# Altium schematic symbol library LED.SchLib: 6 symbols
Pins are listed as number, name and electrical type; pins without a type are passive.

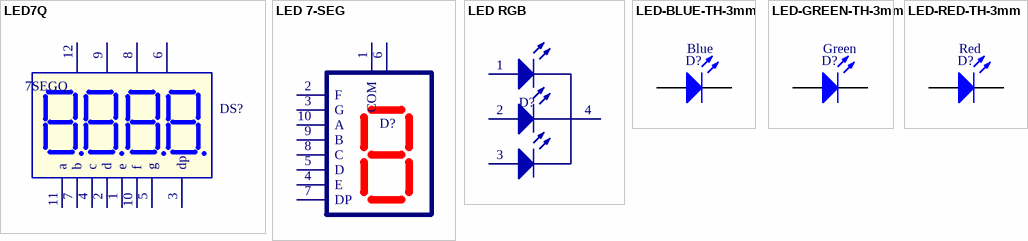
[diagram p0: symbols LED7Q to LED-RED-TH-3mm]

## LED7Q
designator DS?, comment 7SEGQ
Four 7 Seg Dipslay; Value: LED 7Q SEG
footprint 7SEGQ (DIP 12 Leads; Body 48 x 20 mm; Pitch 0.5 mm)
pins: 1 e, 2 d, 3 dp, 4 c, 5 g, 6 V4, 7 b, 8 V3, 9 V2, 10 f, 11 a, 12 V1

## LED 7-SEG
designator D?  (value not drawn)
Product ID: CEM3161BE; Name: 0.36" Anode single 7-seg; Supplier: tme.vn
footprint LED 7-SEG 0.36" (0.36" Single 7-seg)
pins: 1 COM, 2 F, 3 G, 4 E, 5 D, 6 COM, 7 DP, 8 C, 9 B, 10 A

## LED RGB
designator D?  (value not drawn)
footprint LED RGB
pins: 1 Anod, 2 Anod, 3 Anod, 4 Anod

## LED-BLUE-TH-3mm
designator D?  value Blue
LED BLUE CLEAR T-1 T/H; Manufacturer: Kingbright; Manufacturer Part Number: WP710A10QBC/D; Local Supplier: thegioiic; Local Supplier Link: https://thegioiic.com/products/led-xanh-duong-3mm-chan-dai; Supplier 1: Digikey; Supplier 1 Link: https://www.digikey.com/product-detail/en/kingbright/WP710A10QBC-D/754-1596-ND/2769812; Supplier 1 Part Number: 754-1596-ND
footprint LED-3mm (LED 2 PIN, 3ly Only colour)
pins: 1 A, 2 K

## LED-GREEN-TH-3mm
designator D?  value Green
LED GREEN CLEAR T-1 T/H; Manufacturer: Kingbright; Manufacturer Part Number: WP710A10ZGC/G; Local Supplier: thegioiic; Local Supplier Link: https://thegioiic.com/products/led-xanh-la-3mm-chan-dai; Supplier 1: Digikey; Supplier 1 Link: https://www.digikey.com/product-detail/en/kingbright/WP710A10ZGC-G/754-1612-ND/2769684; Supplier 1 Part Number: 754-1612-ND
footprint LED-3mm (LED 2 PIN, 3ly Only colour)
pins: 1 A, 2 K

## LED-RED-TH-3mm
designator D?  value Red
LED RED CLEAR T-1 T/H; Manufacturer: Kingbright; Manufacturer Part Number: WP710A10SEC/J3; Local Supplier: thegioiic; Local Supplier Link: https://thegioiic.com/products/led-do-3mm-chan-dai; Supplier 1: Digikey; Supplier 1 Link: https://www.digikey.com/product-detail/en/kingbright/WP710A10SEC-J3/754-1589-ND/2769815; Supplier 1 Part Number: 754-1589-ND
footprint LED-3mm (LED 2 PIN, 3ly Only colour)
pins: 1 A, 2 K